# Altium footprint library SSOP-36_300mil.PcbLib: 1 footprints
Each footprint in its own frame and in the unit in brackets; x right, y up, seen from the top. Pads: shape width x height; smd on the part's side, far side on the other; paste and mask are expansions set on the pad; w line width, h text height; cw(c..) or ccw(c..) is an arc to the next point about the centre after c.
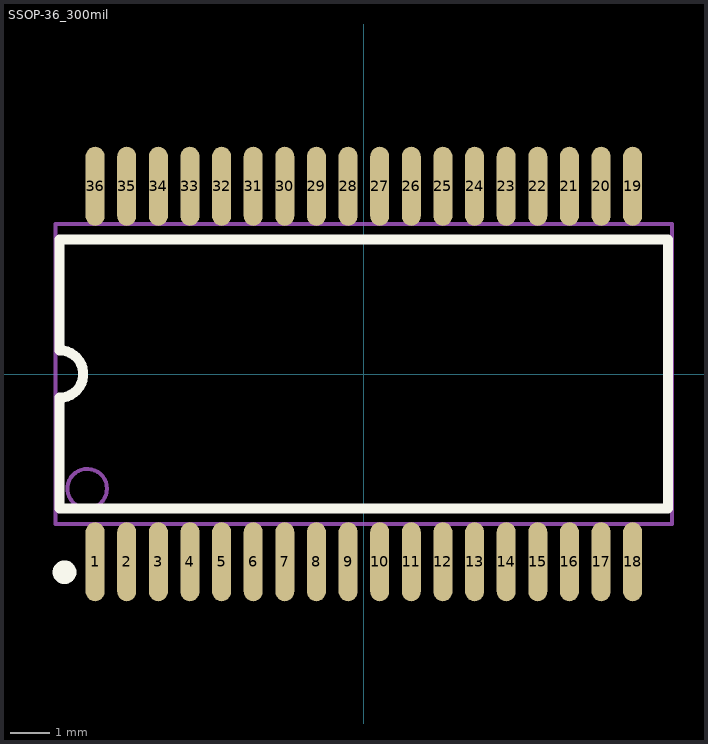
[diagram p0: the footprint, top view; thin cyan lines are the x and y axes]

## SSOP-36_300mil [mm]
pads (36):
  oval 0.48x2 smd: 1(-6.8,-4.75) 2(-6,-4.75) 3(-5.2,-4.75) 4(-4.4,-4.75) 5(-3.6,-4.75) 6(-2.8,-4.75) 7(-2,-4.75) 8(-1.2,-4.75) 9(-0.4,-4.75) 10(0.4,-4.75) 11(1.2,-4.75) 12(2,-4.75) 13(2.8,-4.75) 14(3.6,-4.75) 15(4.4,-4.75) 16(5.2,-4.75) 17(6,-4.75) 18(6.8,-4.75) 19(6.8,4.75) 20(6,4.75) 21(5.2,4.75) 22(4.4,4.75) 23(3.6,4.75) 24(2.8,4.75) 25(2,4.75) 26(1.2,4.75) 27(0.4,4.75) 28(-0.4,4.75) 29(-1.2,4.75) 30(-2,4.75) 31(-2.8,4.75) 32(-3.6,4.75) 33(-4.4,4.75) 34(-5.2,4.75) 35(-6,4.75) 36(-6.8,4.75)
Top Overlay:
  circle w0.3: c-7.572,-5.015 r0.15
  lines w0.254: -7.7,-3.4 -7.7,-0.6 ccw(c-7.7,0) -7.7,0.6 -7.7,3.4 7.7,3.4 7.7,-3.4 -7.7,-3.4
Mechanical 13:
  circle w0.1: c-7,-2.9 r0.5
  lines w0.1: -7.8,-3.8 -7.8,3.8 7.8,3.8 7.8,-3.8 -7.8,-3.8